# Altium footprint library OSD335-X_Devboard.PcbLib: 40 footprints (part 2 of 3)
Each footprint in its own frame and in the unit in brackets; x right, y up, seen from the top. Pads: shape width x height; smd on the part's side, far side on the other; paste and mask are expansions set on the pad; w line width, h text height; cw(c..) or ccw(c..) is an arc to the next point about the centre after c.
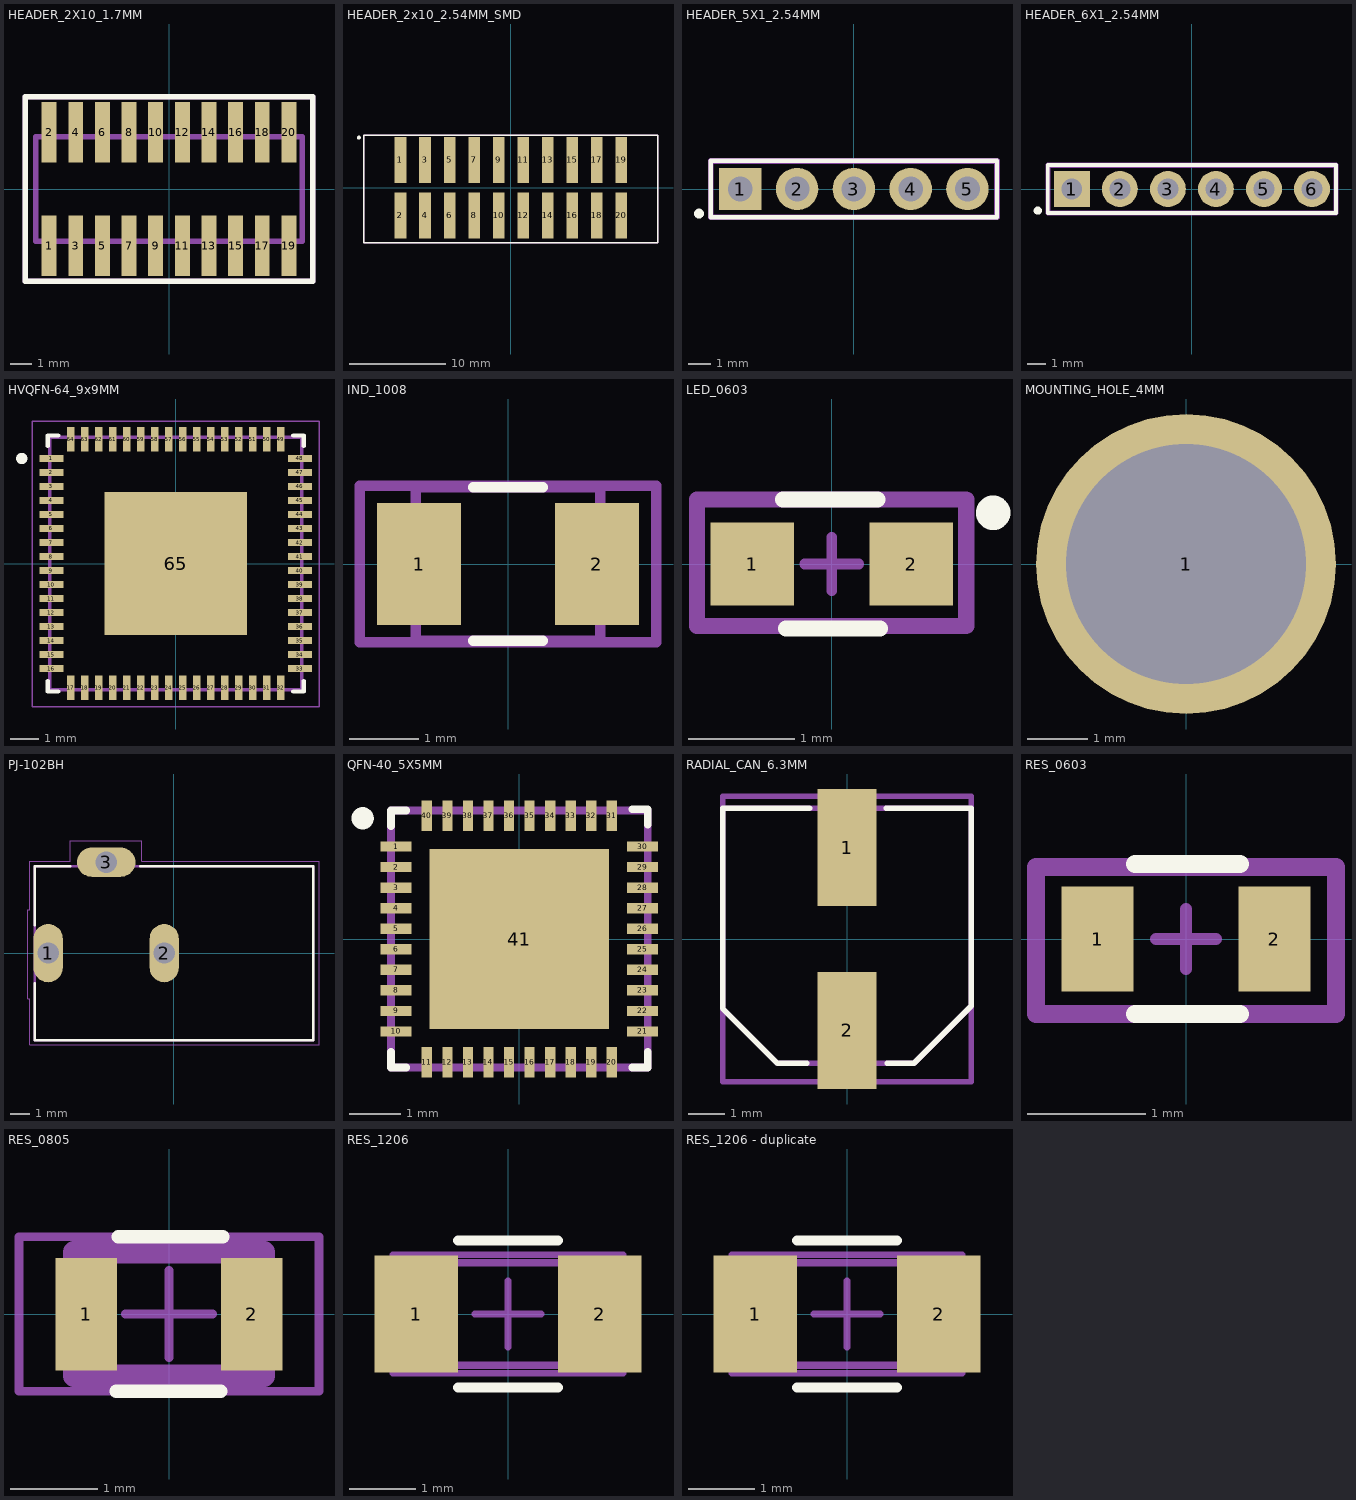
[diagram p1: the footprints below, top view; thin cyan lines are the x and y axes]

## HEADER_2X10_1.7MM [mil]
pads (20):
  rect 28x113 smd mask+2: 1(-225,-106.5) 2(-225,106.5) 3(-175,-106.5) 4(-175,106.5) 5(-125,-106.5) 6(-125,106.5) 7(-75,-106.5) 8(-75,106.5) 9(-25,-106.5) 10(-25,106.5) 11(25,-106.5) 12(25,106.5) 13(75,-106.5) 14(75,106.5) 15(125,-106.5) 16(125,106.5) 17(175,-106.5) 18(175,106.5) 19(225,-106.5) 20(225,106.5)
Top Overlay:
  lines w10: -270,-173 270,-173 270,173 -270,173 -270,-173
Mechanical 1:
  lines w10: -250,-98 -250,98 250,98 250,-98 -250,-98
  text "J1" at -19.57,-20 h30
Mechanical 15:
  lines w10: -270,-173 -270,173 270,173 270,-173 -270,-173
3D body "FTR-110-51-L-D-06.stp": height 340, standoff 0, extent -250,-148 250,148

## HEADER_2x10_2.54MM_SMD [mm]
pads (20):
  rect 1.2x4.75 smd: 1(-11.43,2.875) 2(-11.43,-2.875) 3(-8.89,2.875) 4(-8.89,-2.875) 5(-6.35,2.875) 6(-6.35,-2.875) 7(-3.81,2.875) 8(-3.81,-2.875) 9(-1.27,2.875) 10(-1.27,-2.875) 11(1.27,2.875) 12(1.27,-2.875) 13(3.81,2.875) 14(3.81,-2.875) 15(6.35,2.875) 16(6.35,-2.875) 17(8.89,2.875) 18(8.89,-2.875) 19(11.43,2.875) 20(11.43,-2.875)
Top Overlay:
  circle w0.254: c-15.75,5.175 r0.079
  lines w0.152: -15.25,-5.7 15.225,-5.7 15.225,5.425 -15.25,5.425 -15.25,-5.7
Mechanical 15:
  lines w0.152: -15.25,-5.7 -15.25,5.425 15.225,5.425 15.225,-5.7 -15.25,-5.7
Top Assembly:
  lines w0.152: -15.25,-5.7 -15.25,5.425 15.225,5.425 15.225,-5.7 -15.25,-5.7
  text "'.Designator'" at -0.5,-0.4 h0.81
3D body "3020-20-0300-00.stp": height 9.1, standoff 0, extent -15.24,-5.711 15.24,5.411

## HEADER_5X1_2.54MM [mm]
pads (5):
  rect 1.9x1.9 hole 1.1: 1(-5.08,0)
  round 1.9 hole 1.1: 2(-2.54,0) 3(0,0) 4(2.54,0) 5(5.08,0)
Top Overlay:
  circle w0.254: c-6.925,-1.1 r0.092
  lines w0.2: -6.4,-1.27 -6.4,1.27 ; -6.375,-1.27 6.325,-1.27 ; -6.375,1.27 6.325,1.27 ; 6.4,-1.27 6.4,1.27
Mechanical 15:
  lines w0.254: -6.4,-1.27 -6.4,1.245 ; -6.375,-1.27 6.3,-1.27 6.325,-1.245 ; -6.375,1.245 6.325,1.245 ; 6.4,-1.245 6.4,1.245
Top Assembly:
  lines w0.254: 6.325,-1.27 -6.4,-1.27 -6.4,1.27 6.325,1.27 ; 6.4,-1.27 6.4,1.27
  text "'.Designator'" at -0.965,-0.762 h1.52
3D body "61300511121.stp": height 8.87, standoff -2.67, extent -6.375,-1.27 6.325,1.27

## HEADER_6X1_2.54MM [mm]
pads (6):
  rect 1.9x1.9 hole 1.1: 1(-6.35,0)
  round 1.9 hole 1.1: 2(-3.81,0) 3(-1.27,0) 4(1.27,0) 5(3.81,0) 6(6.35,0)
Top Overlay:
  circle w0.254: c-8.153,-1.143 r0.092
  lines w0.2: -7.62,-1.27 7.62,-1.27 7.62,1.27 -7.62,1.27 -7.62,-1.27
Mechanical 15:
  lines w0.254: -7.595,-1.219 -7.595,1.245 7.62,1.245 7.62,-1.245 7.595,-1.27 -7.544,-1.27 -7.569,-1.245 -7.595,-1.219
Top Assembly:
  lines w0.254: -7.62,-1.27 7.62,-1.27 7.62,1.27 -7.62,1.27 -7.62,-1.27
  text "'.Designator'" at -0.965,-0.762 h1.52
3D body "61300611121.stp": height 8.57, standoff -2.97, extent -7.62,-1.27 7.62,1.27

## HVQFN-64_9x9MM [mm]
pads (65):
  rect 0.86x0.26 smd: 1(-4.435,3.75) 2(-4.435,3.25) 3(-4.435,2.75) 4(-4.435,2.25) 5(-4.435,1.75) 6(-4.435,1.25) 7(-4.435,0.75) 8(-4.435,0.25) 9(-4.435,-0.25) 10(-4.435,-0.75) 11(-4.435,-1.25) 12(-4.435,-1.75) 13(-4.435,-2.25) 14(-4.435,-2.75) 15(-4.435,-3.25) 16(-4.435,-3.75) 33(4.435,-3.75) 34(4.435,-3.25) 35(4.435,-2.75) 36(4.435,-2.25) 37(4.435,-1.75) 38(4.435,-1.25) 39(4.435,-0.75) 40(4.435,-0.25) 41(4.435,0.25) 42(4.435,0.75) 43(4.435,1.25) 44(4.435,1.75) 45(4.435,2.25) 46(4.435,2.75) 47(4.435,3.25) 48(4.435,3.75)
  rect 0.26x0.86 smd: 17(-3.75,-4.435) 18(-3.25,-4.435) 19(-2.75,-4.435) 20(-2.25,-4.435) 21(-1.75,-4.435) 22(-1.25,-4.435) 23(-0.75,-4.435) 24(-0.25,-4.435) 25(0.25,-4.435) 26(0.75,-4.435) 27(1.25,-4.435) 28(1.75,-4.435) 29(2.25,-4.435) 30(2.75,-4.435) 31(3.25,-4.435) 32(3.75,-4.435) 49(3.75,4.435) 50(3.25,4.435) 51(2.75,4.435) 52(2.25,4.435) 53(1.75,4.435) 54(1.25,4.435) 55(0.75,4.435) 56(0.25,4.435) 57(-0.25,4.435) 58(-0.75,4.435) 59(-1.25,4.435) 60(-1.75,4.435) 61(-2.25,4.435) 62(-2.75,4.435) 63(-3.25,4.435) 64(-3.75,4.435)
  rect 5.1x5.1 smd: 65(0,0)
Top Overlay:
  circle w0.2: c-5.495,3.75 r0.1
  lines w0.152: -4.572,-4.191 -4.572,-4.572 -4.191,-4.572 ; -4.572,4.191 -4.572,4.572 -4.191,4.572 ; 4.191,-4.572 4.572,-4.572 4.572,-4.191 ; 4.191,4.572 4.572,4.572 4.572,4.191
Top Paste:
  region: 0.465,-0.465 2.085,-0.465 2.085,-2.085 0.465,-2.085
  region: -2.085,-0.465 -0.465,-0.465 -0.465,-2.085 -2.085,-2.085
  region: 0.465,2.085 2.085,2.085 2.085,0.465 0.465,0.465
  region: -2.085,2.085 -0.465,2.085 -0.465,0.465 -2.085,0.465
Mechanical 15:
  lines w0.05: -5.115,-5.115 5.115,-5.115 5.115,5.08 -5.115,5.08 -5.115,-5.115
Top Assembly:
  lines w0.127: -4.5,-4.5 4.5,-4.5 ; -4.5,-4.5 -4.5,4.5 ; -4.5,-4.5 4.5,-4.5 ; -4.5,-4.5 -4.5,4.5 ; -4.5,4.5 4.5,4.5 ; -4.5,4.5 4.5,4.5 ; 4.5,-4.5 4.5,4.5 ; 4.5,-4.5 4.5,4.5
  text "'.Designator'" at -0.889,-0.635 h1.52
3D body "TDA19988BHN_C1,557.stp": height 1, standoff 0, extent -4.55,-4.55 4.55,4.55

## IND_1008 [mil]
pads (2):
  rect 47.5x69 smd: 1(-50.25,0) 2(50.25,0)
Top Overlay:
  lines w6: -19.68,-43.31 19.68,-43.31 ; -19.68,43.31 19.68,43.31
Mechanical 15:
  lines w6: -83.66,-44.29 -83.66,44.29 83.66,44.29 83.66,-44.29 -83.66,-44.29
Top Assembly:
  lines w6: -52.17,-43.31 52.17,-43.31 52.17,43.31 -52.17,43.31 -52.17,-43.31
  text "'.Designator'" at -20.67,-15.75 h32
3D body "IND_BOURNS_CVH252009.step": height 39.02, standoff 0, extent -52.99,-43.59 52.99,43.58

## LED_0603 [mil]
pads (2):
  rect 31x31 smd: 1(-29.53,0) 2(29.53,0)
Top Overlay:
  circle w10: c60,19 r1.41
  lines w6: -18,24 17,24 ; -17,-24 18,-24
Mechanical 15:
  lines w3.94: -10,0 0,0 ; 0,-10 0,0 ; 0,10 0,0 ; 10,0 0,0 ; -50,-24 50,-24 50,24 -50,24 -50,-24
Top Assembly:
  lines w6: -50,-23 -50,24 50,24 50,-23 -50,-23
  text "'.Designator'" at -31,-12 h30
3D body "LTST-C190KRKT.STEP": height 31.5, standoff 0, extent -31.5,-15.74 31.5,15.76

## MOUNTING_HOLE_4MM [mm]
pads (1):
  round 5 hole 4: 1(0,0)

## PCBComponent_1 [mm]

## PJ-102BH [mm]
pads (3):
  oval 1.508x3.016 hole 1.1: 1(-6.5,0) 2(-0.5,0)
  oval 3.016x1.508 hole 1.1: 3(-3.5,4.7)
Top Overlay:
  lines w0.127: -7.2,-1.55 -7.2,-4.5 7.2,-4.5 7.2,4.5 -1.75,4.5 ; -7.2,1.45 -7.2,4.5 -5.35,4.5
Mechanical 1:
  lines w0: -7,-0.8 -7,0.8 -6,0.8 -6,-0.8 -7,-0.8 ; -4.3,4.2 -2.7,4.2 -2.7,5.2 -4.3,5.2 -4.3,4.2 ; -1,-0.8 -1,0.8 0,0.8 0,-0.8 -1,-0.8
Mechanical 15:
  lines w0.05: -7.55,-2.35 -7.55,2.25 -7.45,2.25 -7.45,4.75 -5.35,4.75 -5.35,5.8 -1.65,5.8 -1.65,4.75 7.5,4.75 7.5,-4.75 -7.45,-4.75 -7.45,-2.35 -7.55,-2.35
Top Assembly:
  lines w0.127: -7.2,-4.5 -7.2,4.5 7.2,4.5 7.2,-4.5 -7.2,-4.5
  text "'.Designator'" at -1.2,-0.575 h1.52
3D body "PJ-102BH.stp": height 12.12, standoff -2.38, extent -7.25,-4.525 7.15,4.875

## QFN-40_5X5MM [mm]
pads (41):
  rect 0.6x0.2 smd: 1(-2.4,1.8) 2(-2.4,1.4) 3(-2.4,1) 4(-2.4,0.6) 5(-2.4,0.2) 6(-2.4,-0.2) 7(-2.4,-0.6) 8(-2.4,-1) 9(-2.4,-1.4) 10(-2.4,-1.8) 21(2.4,-1.8) 22(2.4,-1.4) 23(2.4,-1) 24(2.4,-0.6) 25(2.4,-0.2) 26(2.4,0.2) 27(2.4,0.6) 28(2.4,1) 29(2.4,1.4) 30(2.4,1.8)
  rect 0.2x0.6 smd: 11(-1.8,-2.4) 12(-1.4,-2.4) 13(-1,-2.4) 14(-0.6,-2.4) 15(-0.2,-2.4) 16(0.2,-2.4) 17(0.6,-2.4) 18(1,-2.4) 19(1.4,-2.4) 20(1.8,-2.4) 31(1.8,2.4) 32(1.4,2.4) 33(1,2.4) 34(0.6,2.4) 35(0.2,2.4) 36(-0.2,2.4) 37(-0.6,2.4) 38(-1,2.4) 39(-1.4,2.4) 40(-1.8,2.4)
  rect 3.5x3.5 smd: 41(0,0)
Top Overlay:
  circle w0.254: c-3.05,2.35 r0.09
  lines w0.152: -2.5,-2.2 -2.5,-2.5 -2.2,-2.5 ; -2.5,2.2 -2.5,2.5 -2.2,2.5 ; 2.2,-2.5 2.5,-2.5 2.5,-2.2 ; 2.2,2.525 2.5,2.525 2.5,2.225
Top Paste:
  region: 0.1,-0.1 1.6,-0.1 1.6,-1.6 0.1,-1.6
  region: -1.6,-0.1 -0.1,-0.1 -0.1,-1.6 -1.6,-1.6
  region: 0.1,1.6 1.6,1.6 1.6,0.1 0.1,0.1
  region: -1.6,1.6 -0.1,1.6 -0.1,0.1 -1.6,0.1
Mechanical 15:
  lines w0.152: -2.5,-2.5 2.5,-2.5 2.5,2.5 -2.5,2.5 -2.5,-2.5
Top Assembly:
  lines w0.152: -2.5,-2.5 2.5,-2.5 2.5,2.5 -2.5,2.5 -2.5,-2.5
  text "'.Designator'" at -0.5,-0.425 h0.81
3D body "AR8035.STEP": height 0.8, standoff 0, extent -2.5,-2.5 2.5,2.5

## RADIAL_CAN_6.3MM [mm] "7.7mm height"
pads (2):
  rect 1.6x3.2 smd: 1(0,2.5) 2(0,-2.5)
Top Overlay:
  lines w0.152: -1.1,-3.4 -1.9,-3.4 -3.4,-1.9 -3.4,3.575 -1.025,3.575 ; 1.075,3.575 3.4,3.575 3.4,-1.025 3.4,-1.825 1.825,-3.4 1.1,-3.4
Mechanical 15:
  lines w0.152: -3.4,-3.9 -3.4,3.9 3.4,3.9 3.4,-3.9 -3.4,-3.9
Top Assembly:
  lines w0.152: -3.4,-1.9 -1.9,-3.4 -1.1,-3.4 1.1,-3.4 1.825,-3.4 3.4,-1.825 3.4,-1.025 3.4,3.575 1.075,3.575 -1.025,3.575 -3.4,3.575 -3.4,-1.9
  text "'.Designator'" at -0.65,-0.375 h0.91
3D body "EEE-HC1C101XP.stp": height 8, standoff 0, extent -3.4,-3.9 3.4,3.9

## RES_0603 [mil]
pads (2):
  rect 24x35 smd: 1(-29.5,0) 2(29.5,0)
Top Overlay:
  lines w6: -17,-25 18,-25 ; -17,25 18,25
Mechanical 15:
  lines w3.94: -10,0 0,0 ; 0,-10 0,0 ; 0,10 0,0 ; 10,0 0,0 ; -50,-25 50,-25 50,25 -50,25 -50,-25
Top Assembly:
  lines w6: -50,-25 -50,24 50,24 50,-25 -50,-25
  text "'.Designator'" at -31,-12 h30
3D body "R0603.step": height 16.86, standoff -0.86, extent -31.5,-15.74 31.49,15.75

## RES_0805 [mil]
pads (2):
  rect 28x51 smd: 1(-37.5,0) 2(37.5,0)
Top Overlay:
  lines w6: -24,-35 23.5,-35 ; -23,35 24.5,35
Mechanical 13:
  lines w3.94: -43.31,-27.56 43.31,-27.56 43.31,27.56 -43.31,27.56 -43.31,-27.56
Mechanical 15:
  lines w3.94: -19.69,0 19.68,0 ; 0,-19.69 0,19.68 ; -68,-35 68,-35 68,35 -68,35 -68,-35
Top Assembly:
  lines w10: -43,-28 43,-28 43,28 -43,28 -43,-27 -43,-28
  text "'.Designator'" at -31,-12 h30
3D body "R0805.step": height 22.44, standoff -1.18, extent -39.37,-24.6 39.37,24.61

## RES_1206 [mm]
pads (2):
  rect 1.25x1.75 smd: 1(-1.375,0) 2(1.375,0)
Top Overlay:
  lines w0.152: -0.75,-1.1 0.75,-1.1 ; -0.75,1.1 0.75,1.1
Mechanical 13:
  lines w0.1: -1.651,-0.775 -1.651,0.775 1.651,0.775 1.651,-0.775 -1.651,-0.775
Mechanical 15:
  lines w0.1: -0.5,0 0.5,0 ; 0,-0.5 0,0.5 ; -1.727,-0.889 1.727,-0.889 1.727,0.889 -1.727,0.889 -1.727,-0.889
Top Assembly:
  lines w0.1: -1.651,-0.762 -1.651,0.762 1.651,0.762 1.651,-0.762 -1.651,-0.762
  text "'.Designator'" at -0.508,-0.381 h0.76
3D body "R1206.step": height 0.58, standoff -0.02, extent -1.6,-0.8 1.6,0.8

## RES_1206 - duplicate [mm]
pads (2):
  rect 1.25x1.75 smd: 1(-1.375,0) 2(1.375,0)
Top Overlay:
  lines w0.152: -0.75,-1.1 0.75,-1.1 ; -0.75,1.1 0.75,1.1
Mechanical 13:
  lines w0.1: -1.651,-0.775 1.651,-0.775 1.651,0.775 -1.651,0.775 -1.651,-0.775
Mechanical 15:
  lines w0.1: -0.5,0 0.5,0 ; 0,-0.5 0,0.5 ; -1.727,-0.889 -1.727,0.889 1.727,0.889 1.727,-0.889 -1.727,-0.889
Top Assembly:
  lines w0.1: -1.651,-0.762 1.651,-0.762 1.651,0.762 -1.651,0.762 -1.651,-0.762
  text "'.Designator'" at -0.508,-0.381 h0.76
3D body "R1206.step": height 0.58, standoff -0.02, extent -1.6,-0.8 1.6,0.8